# EAGLE library part TC2050-IDC (library RoboJackets-Connectors)
Description: Plug-Of-Nails™ Adapter Cable Link: Digi-Key <https://www.digikey.com/products/en?keywords=TC2050-IDC-ND>
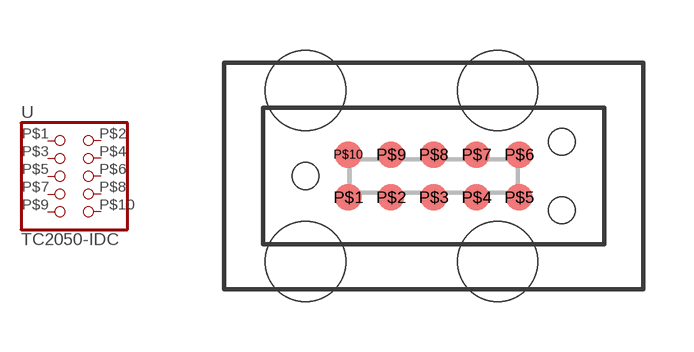
[diagram p10: symbol with the pads of TC2050-IDC; footprint TC2050-IDC]

Designator prefix -

## TC2050-IDC (DKPN: TC2050-IDC-ND)  [TC2050-IDC]
P$1  1  pas
P$2  2  pas
P$3  3  pas
P$4  4  pas
P$5  5  pas
P$6  6  pas
P$7  7  pas
P$8  8  pas
P$9  9  pas
P$10  10  pas

## Footprint TC2050-IDC (pad centres in mm)
smd 0.787 x 0.787: P$1 -2.54,-0.635; P$2 -1.27,-0.635; P$3 0,-0.635; P$4 1.27,-0.635; P$5 2.54,-0.635; P$6 2.54,0.635; P$7 1.27,0.635; P$8 0,0.635; P$9 -1.27,0.635; P$10 -2.54,0.635
hole 0.787 at -3.81,0
hole 0.787 at 3.81,1.015
hole 0.787 at 3.81,-1.015
hole 2.375 at -3.81,2.54
hole 2.375 at -3.81,-2.54
hole 2.375 at 1.905,2.54
hole 2.375 at 1.905,-2.54